# Altium footprint library Arsham_libForMMSTester.PcbLib: 7 footprints
Each footprint in its own frame and in the unit in brackets; x right, y up, seen from the top. Pads: shape width x height; smd on the part's side, far side on the other; paste and mask are expansions set on the pad; w line width, h text height; cw(c..) or ccw(c..) is an arc to the next point about the centre after c.
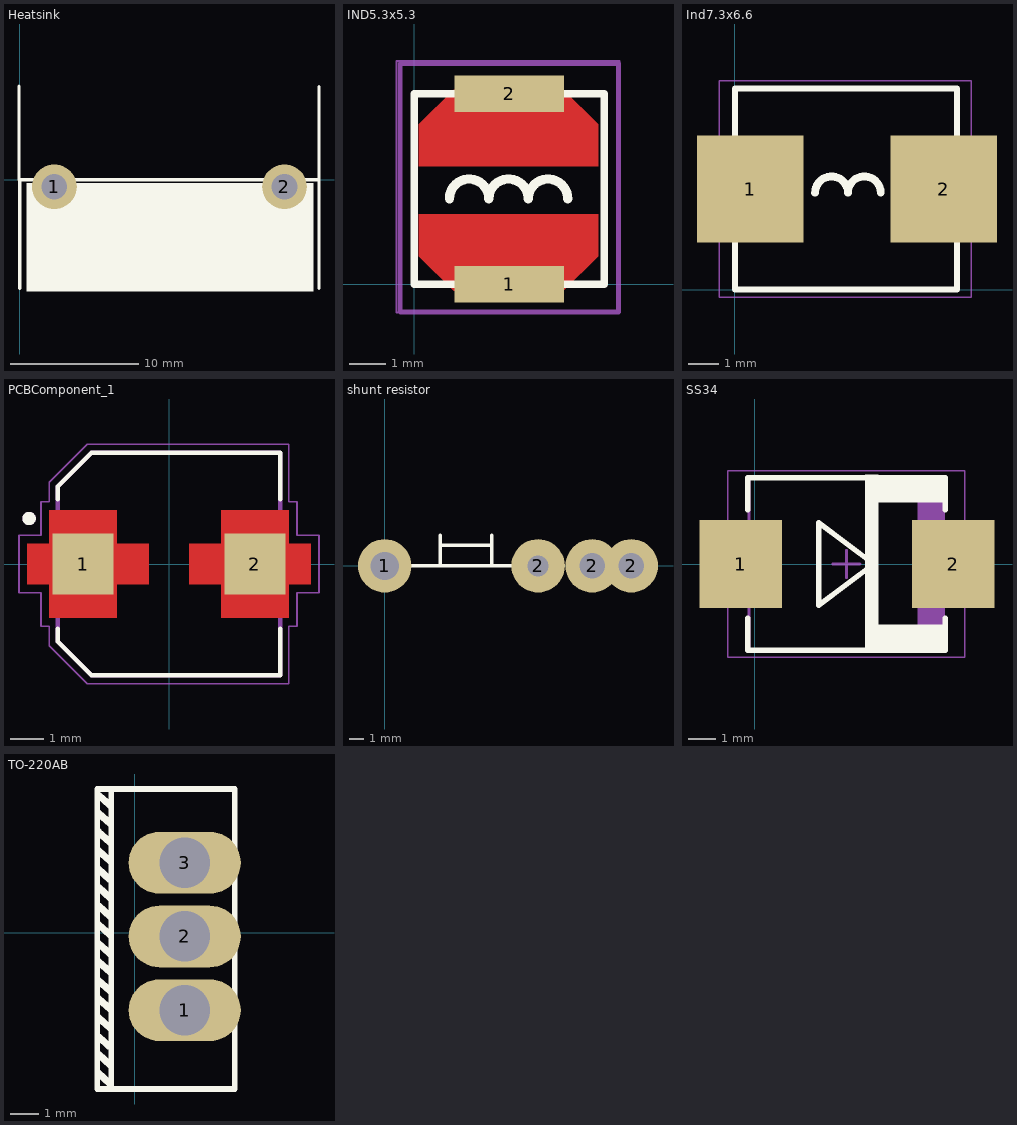
[diagram p0: the footprints below, top view; thin cyan lines are the x and y axes]

## Heatsink [mm] "30x23x15mm / https://eshop.eca.ir/%D9%87%DB%8C%D8%AA-%D8%B3%DB%8C%D9%86%DA%A9/10003-%D9%87%DB%8C%D8%AA-%D8%B3%DB%8C%D9%86%DA%A9-%D8%A2%D9%84%D9%88%D9%85%DB%8C%D9%86%DB%8C%D9%88%D9%85%DB%8C-%D9%85%D8%B4%DA%A9%DB%8C-30x23x15mm.html"
pads (2):
  round 3.5 hole 2: 1(2.7,-0.55) 2(20.7,-0.55)
Top Overlay:
  rectangle: 0.508,-8.754 22.987,-0.254
  lines w0.254: -0.068,0.006 -0.068,7.306 ; 0,-8.5 0,0 23.4,0 ; 23.4,-8.5 23.4,0 ; 23.4,7.3 23.4,0
3D body: height 5, standoff -3, extent 1.5,-1.75 3.9,0.65
3D body: height 5, standoff -3, extent 19.5,-1.75 21.9,0.65
3D body: height 30, standoff 0.2, extent -0.508,-9.398 0.508,8.001
3D body: height 30, standoff 0.2, extent 22.987,-9.398 24.003,8.001
3D body: height 30, standoff 0.2, extent 4.191,-9.398 4.826,0.127
3D body: height 30, standoff 0.2, extent 8.89,-9.398 9.525,0.127
3D body: height 30, standoff 0.2, extent 13.589,-9.398 14.224,0.127
3D body: height 30, standoff 0.2, extent 18.288,-9.398 18.923,0.127
3D body: height 30, standoff 0.2, extent 0.254,-0.508 23.177,1.016

## IND5.3x5.3 [mm]
pads (2):
  rect 3x1 smd: 1(2.6,0) 2(2.6,5.2)
Top Layer:
  region: 5.03,1.916 5.03,0.766 4.08,-0.184 1.08,-0.184 0.13,0.766 0.13,1.916
  region: 0.13,3.216 0.13,4.366 1.08,5.316 4.08,5.316 5.03,4.366 5.03,3.216
Top Overlay:
  lines w0.2: 0,0 5.2,0 5.2,5.2 0,5.2 0,0
  lines w0.254: 0.964,2.334 cw(c1.503,2.334) 2.042,2.334 cw(c2.58,2.334) 3.119,2.334 cw(c3.658,2.334) 4.197,2.334
Mechanical 13:
  lines w0.127: -0.381,-0.762 -0.381,6.03 5.584,6.03 5.584,-0.762 -0.381,-0.762
Mechanical 15:
  lines w0.05: -0.484,-0.776 5.615,-0.776 5.615,6.1 -0.484,6.1 -0.484,-0.776
3D body: height 0.5, standoff 0.5, extent 0.949,4.787 4.251,5.613
3D body: height 0.5, standoff 0.5, extent 0.949,-0.313 4.251,0.513
3D body: height 2.8, standoff 0.1, extent 0,0 5.207,5.207

## Ind7.3x6.6 [mm]
pads (2):
  rect 3.5x3.5 smd: 1(0.508,3.3) 2(6.858,3.3)
Top Overlay:
  lines w0.2: 0,0 7.3,0 7.3,6.6 0,6.6 0,0
  lines w0.254: 2.636,3.175 cw(c3.175,3.175) 3.714,3.175 cw(c4.253,3.175) 4.791,3.175
Mechanical 13:
  lines w0.127: 0,0 7.3,0 7.3,6.6 0,6.6 0,0
Mechanical 15:
  lines w0.05: -0.508,-0.254 7.765,-0.254 7.765,6.857 -0.508,6.857 -0.508,-0.254
3D body: height 0.5, standoff 0, extent 7.112,1.651 7.938,4.953
3D body: height 0.5, standoff 0, extent -0.635,1.651 0,4.953
3D body: height 2.9, standoff 0, extent 0,0 7.239,6.604

## PCBComponent_1 [mm]
pads (2):
  rect 1.8x1.8 smd paste-2 mask+0: 1(-2.55,0) 2(2.55,0)
Top Layer:
  region: -1.55,0.6 -0.6,0.6 -0.6,-0.6 -1.55,-0.6 -1.55,-1.6 -3.55,-1.6 -3.55,-0.6 -4.2,-0.6 -4.2,0.6 -3.55,0.6 -3.55,1.6 -1.55,1.6
  region: 3.55,0.6 4.2,0.6 4.2,-0.6 3.55,-0.6 3.55,-1.6 1.55,-1.6 1.55,-0.6 0.6,-0.6 0.6,0.6 1.55,0.6 1.55,1.6 3.55,1.6
Top Overlay:
  circle w0.2: c-4.15,1.35 r0.1
  lines w0.127: -3.3,-1.92 -3.3,-2.3 -2.3,-3.3 3.3,-3.3 3.3,-1.92 ; -3.3,1.92 -3.3,2.3 -2.3,3.3 3.3,3.3 3.3,1.92
Top Paste:
  region: -1.55,0.6 -0.6,0.6 -0.6,-0.6 -1.55,-0.6 -1.55,-1.6 -3.55,-1.6 -3.55,-0.6 -4.2,-0.6 -4.2,0.6 -3.55,0.6 -3.55,1.6 -1.55,1.6
  region: 3.55,0.6 4.2,0.6 4.2,-0.6 3.55,-0.6 3.55,-1.6 1.55,-1.6 1.55,-0.6 0.6,-0.6 0.6,0.6 1.55,0.6 1.55,1.6 3.55,1.6
Top Solder:
  region: -1.45,0.7 -0.5,0.7 -0.5,-0.7 -1.45,-0.7 -1.45,-1.7 -3.65,-1.7 -3.65,-0.7 -4.3,-0.7 -4.3,0.7 -3.65,0.7 -3.65,1.7 -1.45,1.7
  region: 3.65,0.7 4.3,0.7 4.3,-0.7 3.65,-0.7 3.65,-1.7 1.45,-1.7 1.45,-0.7 0.5,-0.7 0.5,0.7 1.45,0.7 1.45,1.7 3.65,1.7
Mechanical 13:
  circle w0.2: c-4.15,1.35 r0.1
  lines w0.127: -3.3,-2.3 -3.3,2.3 -2.3,3.3 3.3,3.3 3.3,-3.3 -2.3,-3.3 -3.3,-2.3
Mechanical 15:
  lines w0.05: -4.45,-0.85 -3.8,-0.85 -3.8,-1.85 -3.55,-1.85 -3.55,-2.425 -2.425,-3.55 3.55,-3.55 3.55,-1.85 3.8,-1.85 3.8,-0.85 4.45,-0.85 4.45,0.85 3.8,0.85 3.8,1.85 3.55,1.85 3.55,3.55 -2.425,3.55 -3.55,2.425 -3.55,1.85 -3.8,1.85 -3.8,0.85 -4.45,0.85 -4.45,-0.85
3D body "step_temp.STEP": height 8, standoff 0, extent -3.65,-3.3 3.65,3.3

## shunt resistor [mm]
pads (4):
  round 3.8 hole 2: 1(0,0)
  round 3.8 hole 1.5: 2(10.9,0)
  round 3.8 hole 1.8: 2(14.75,0) 2(17.526,0)
Top Overlay:
  lines w0.254: 1.905,0 9.398,0 ; 3.937,0 3.937,2.159 ; 4.064,1.46 7.62,1.46 ; 7.62,0 7.62,2.159
3D body "S.STEP": height 19.25, standoff -2, extent -1.24,-0.611 17.75,0.889

## SS34 [mm]
pads (2):
  rect 3x3.2 smd: 1(-0.508,0) 2(7.239,0)
Top Overlay:
  rectangle: 4.024,-3.088 4.524,3.262
  rectangle: 4.343,2.246 6.943,3.15
  region: 6.991,-2.199 4.391,-2.199 4.391,-3.103 6.991,-3.103
  lines w0.2: -0.257,-1.975 -0.257,-3.15 6.943,-3.15 6.943,-1.975 ; -0.257,1.975 -0.257,3.15 6.943,3.15 6.943,1.975 ; 2.343,-1.5 4.343,0 2.343,1.5 2.343,-1.5
Mechanical 13:
  rectangle: 5.942,-3.11 6.898,3.11
  lines w0.1: -0.212,-3.11 6.898,-3.11 6.898,3.11 -0.212,3.11 -0.212,-3.11
Mechanical 15:
  lines w0.05: -0.982,-3.4 7.668,-3.4 7.668,3.4 -0.982,3.4 -0.982,-3.4
  lines w0.1: 2.843,0 3.843,0 ; 3.343,-0.5 3.343,0.5
3D body "DO-214AB(SMC).step": height 2.62, standoff 0, extent -0.432,-3.11 7.118,3.11

## TO-220AB [mm] "Suggested for IRF9540"
pads (3):
  oval 4x2.2 hole 1.8: 1(1.778,-2.757) 2(1.778,-0.127) 3(1.778,2.503)
Top Overlay:
  lines w0.2: -0.842,-5.547 -0.842,5.103 ; -1.342,-5.567 3.558,-5.567 3.558,5.133 -1.342,5.133 -1.342,-5.567
  lines w0.254: -1.318,-3.008 -0.892,-3.391 ; -1.318,-1.684 -0.892,-2.068 ; -1.318,-0.36 -0.892,-0.744 ; -1.318,2.287 -0.892,1.903 ; -1.318,2.949 -0.892,2.565 ; -1.308,-4.993 -0.882,-5.377 ; -1.308,3.611 -0.882,3.227 ; -1.299,4.273 -0.873,3.889 ; -1.298,-4.331 -0.872,-4.715 ; -1.298,-2.346 -0.872,-2.73 ; -1.298,-1.022 -0.872,-1.406 ; -1.298,0.302 -0.872,-0.082 ; -1.298,0.963 -0.872,0.58 ; -1.298,1.625 -0.872,1.242 ; -1.288,-3.707 -0.904,-4.053 ; -1.274,4.901 -0.885,4.551
3D body "TO-220AB-ST.stp": height 19.5, standoff -9.2, extent -1.359,-5.494 3.441,5.156